# Altium schematic symbol library Potentiometers.SchLib: 5 symbols
Pins are listed as number, name and electrical type; pins without a type are passive.

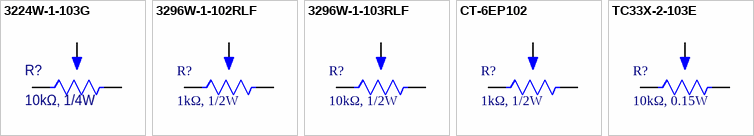
[diagram p0: symbols 3224W-1-103G to TC33X-2-103E]

## 3224W-1-103G
designator R?, comment 10kΩ, 1/4W
TRIMMER 10K OHM 0.25W J LEAD TOP; Manufacturer: Bourns; Manufacturer Part Number: 3224W-1-103G; Description: Trimmer, Cermet, 0.25W, 10000ohm, 300V, 10% +/-Tol, 100ppm/Cel, 12 Turn(s), 1914; Max Power Dissipation: 250mW; Number of Turns: 12; Temperature Coefficient: 100ppm/°C; Tolerance: 10%; Working Voltage: 300V; Supplier: DigiKey; Supplier Part Number: 3224W-1-103GCT-ND; RoHS: Compliant; Category: Variable Resistors and Potentiometers; Stock: 792; Pricing: 1=3.93, 10=3.271, 25=3.038, 50=2.8722, 100=2.7147, 250=2.51884, 500=2.3796 (USD); Composition: Cermet; Depth: 3.9mm; Height: 5.1mm; Length: 4.8mm; Lifecycle Status: Production; Max Operating Temperature: 150°C; Military Standard: Not; Min Operating Temperature: -65°C; Mounting Technology: Surface Mount; Number of Terminals: 3; Packaging: Tape & Reel (TR); Power Rating: 250mW; REACH SVHC: No; Value: 10kΩ; Termination: SMD/SMT; Width: 3.5mm; ComponentLink1URL: https://datasheet.octopart.com:443/3224W-1-103G-Bourns-datasheet-182141393.pdf?src-supplier=IHS; ComponentLink1Description: https://datasheet.octopart.com:443/3224W-1-103G-Bourns-datasheet-182141393.pdf?src-supplier=IHS; ComponentLink2URL: https://datasheet.octopart.com:443/3224W-1-103G-Bourns-datasheet-156011607.pdf?src-supplier=element14+APAC; ComponentLink2Description: https://datasheet.octopart.com:443/3224W-1-103G-Bourns-datasheet-156011607.pdf?src-supplier=element14+APAC; ComponentLink3URL: https://datasheet.octopart.com:443/3224W-1-103G-Bourns-datasheet-64275176.pdf?src-supplier=Master+Electronics; ComponentLink3Description: https://datasheet.octopart.com:443/3224W-1-103G-Bourns-datasheet-64275176.pdf?src-supplier=Master+Electronics; ComponentLink4URL: https://datasheet.octopart.com:443/3224W-1-103G-Bourns-datasheet-11533694.pdf?src-supplier=Arrow+Electronics; ComponentLink4Description: https://datasheet.octopart.com:443/3224W-1-103G-Bourns-datasheet-11533694.pdf?src-supplier=Arrow+Electronics; ComponentLink5URL: http://sigma.octopart.com:80/conflict_mineral_statement/Bourns-company-36.pdf?src-supplier=Compliance+Statements; ComponentLink5Description: http://sigma.octopart.com:80/conflict_mineral_statement/Bourns-company-36.pdf?src-supplier=Compliance+Statements
footprint TRIM-3224W
pins: 1 CCW, 2 WIPER, 3 CW

## 3296W-1-102RLF
designator R?, comment 1kΩ, 1/2W
TRIMMER 1K OHM 0.5W PC PIN TOP; Manufacturer: Bourns; Manufacturer Part Number: 3296W-1-102RLF; Tolerance: 10%; Actuator Orientation: Vertical; Actuator Type: SCREW; Number of Turns: 25; Power: 500mW; Rated Temperature: 70°C; Value: 1kR; Resistance Law: Linear; Rotational Angle: 9000°; Temperature Coefficient: -100100ppm/°C; Lead Diameter: 0.51mm; Lead Length: 6.4mm; Package Height: 10.03mm; Package Length: 9.53mm; Package Width: 4.83mm; Supplier: Digikey; Supplier Part Number: 118-3296W-1-102RLFCT-ND; RoHS: Yes; Category: Variable Resistors and Potentiometers; Stock: 1604; Pricing: 1=2.66, 10=2.326, 25=2.0768, 50=1.9522, 100=1.9106, 250=1.82752, 500=1.49526 (USD); Mounting Technology: Through Hole; Pins: 3; Package Shape: Rectangular; Case/Package: 3819; Terminal Finish: Tin; Min Operating Temperature: -55°C; Max Operating Temperature: 125°C; JESD-609 Code: e3; Resistor Type: TRIMMER; Construction: Trimmer Pot; Package Style: PCB MountMeter; Packaging: Tape and Reel; Technology: CERMET; Termination: Wire; RoHS Compliant: Yes; Reach SVHC Compliant: No; ComponentLink1URL: https://datasheet.ciiva.com:443/pdfs/VipMasterIC/IC/BOUR/BOUR-S-A0008796795/BOUR-S-A0008796795-1.pdf?src-supplier=IHS+Markit; ComponentLink1Description: https://datasheet.ciiva.com:443/pdfs/VipMasterIC/IC/BOUR/BOUR-S-A0008796795/BOUR-S-A0008796795-1.pdf?src-supplier=IHS+Markit; ComponentLink2URL: https://datasheet.ciiva.com/2162/3296-2162753.pdf?src-supplier=Digikey; ComponentLink2Description: https://datasheet.ciiva.com/2162/3296-2162753.pdf?src-supplier=Digikey; ComponentLink3URL: https://datasheet.ciiva.com/8088/3296-8088765.pdf?src-supplier=Avnet; ComponentLink3Description: https://datasheet.ciiva.com/8088/3296-8088765.pdf?src-supplier=Avnet; ComponentLink4URL: https://datasheet.ciiva.com/15211/getdatasheetpartid-707789-15211738.pdf?src-supplier=Verical; ComponentLink4Description: https://datasheet.ciiva.com/15211/getdatasheetpartid-707789-15211738.pdf?src-supplier=Verical
footprint TRIM-3296
pins: 1 CCW, 2 WIPER, 3 CW

## 3296W-1-103RLF
designator R?, comment 10kΩ, 1/2W
TRIMMER 10K OHM 0.5W PC PIN TOP; Manufacturer: Bourns; Manufacturer Part Number: 3296W-1-103RLF; Tolerance: 10%; Actuator Orientation: Vertical; Actuator Type: SCREW; Number of Turns: 25; Power: 500mW; Rated Temperature: 70°C; Value: 10kR; Resistance Law: Linear; Rotational Angle: 9000°; Temperature Coefficient: -100100ppm/°C; Lead Diameter: 0.51mm; Lead Length: 6.4mm; Package Height: 10.03mm; Package Length: 9.53mm; Package Width: 4.83mm; Supplier: Digikey; Supplier Part Number: 118-3296W-1-103RLFCT-ND; RoHS: Yes; Category: Variable Resistors and Potentiometers; Stock: 10907; Pricing: 1=2.66, 10=2.326, 25=2.0768, 50=1.9522, 100=1.9106, 250=1.82752, 500=1.49526 (USD); Mounting Technology: Through Hole; Pins: 3; Package Shape: Rectangular; Case/Package: 3819; Terminal Finish: Tin; Min Operating Temperature: -55°C; Max Operating Temperature: 125°C; JESD-609 Code: e3; Resistor Type: TRIMMER; Construction: Trimmer Pot; Package Style: PCB MountMeter; Packaging: Tape and Reel; Technology: CERMET; Termination: Wire; RoHS Compliant: Yes; Reach SVHC Compliant: No; ComponentLink1URL: https://datasheet.ciiva.com:443/pdfs/VipMasterIC/IC/BOUR/BOUR-S-A0008796795/BOUR-S-A0008796795-1.pdf?src-supplier=IHS+Markit; ComponentLink1Description: https://datasheet.ciiva.com:443/pdfs/VipMasterIC/IC/BOUR/BOUR-S-A0008796795/BOUR-S-A0008796795-1.pdf?src-supplier=IHS+Markit; ComponentLink2URL: https://datasheet.ciiva.com/6226/3296-6226765.pdf?src-supplier=Digikey; ComponentLink2Description: https://datasheet.ciiva.com/6226/3296-6226765.pdf?src-supplier=Digikey; ComponentLink3URL: https://datasheet.ciiva.com/6226/3296-6226767.pdf?src-supplier=Digikey; ComponentLink3Description: https://datasheet.ciiva.com/6226/3296-6226767.pdf?src-supplier=Digikey; ComponentLink4URL: https://datasheet.ciiva.com/15156/getdatasheetpartid-227249-15156874.pdf?src-supplier=Verical; ComponentLink4Description: https://datasheet.ciiva.com/15156/getdatasheetpartid-227249-15156874.pdf?src-supplier=Verical; ComponentLink5URL: https://datasheet.ciiva.com/8088/3296-8088775.pdf?src-supplier=Avnet; ComponentLink5Description: https://datasheet.ciiva.com/8088/3296-8088775.pdf?src-supplier=Avnet
footprint TRIM-3296
pins: 1 CCW, 2 WIPER, 3 CW

## CT-6EP102
designator R?, comment 1kΩ, 1/2W
TRIMMER 1K OHM 0.5W PC PIN TOP; Manufacturer: Nidec Copal; Manufacturer Part Number: CT-6EP102; Supplier: Digikey; Supplier Part Number: 563-CT-6EP102-ND; RoHS: Yes; Category: Variable Resistors and Potentiometers; Stock: 51856; Pricing: 1=0.59, 10=0.532, 25=0.4804, 50=0.4634, 200=0.43755, 400=0.4204, 600=0.39467, 1000=0.32603, 5000=0.3021 (USD); ComponentLink1URL: https://datasheet.ciiva.com/2157/ct-6-2157717.pdf?src-supplier=Digikey; ComponentLink1Description: https://datasheet.ciiva.com/2157/ct-6-2157717.pdf?src-supplier=Digikey
footprint TRIM-CT6EP
pins: 1 CCW, 2 WIPER, 3 CW

## TC33X-2-103E
designator R?, comment 10kΩ, 0.15W
TRIMMER 10K OHM 0.15W J LEAD TOP; Manufacturer: Bourns; Manufacturer Part Number: TC33X-2-103E; Max Power Dissipation: 100mW; Number of Turns: 1; Power Dissipation: 150mW; Temperature Coefficient: 250ppm/°C; Tolerance: 25%; Voltage Rating (DC): 50V; Supplier: DigiKey; Supplier Part Number: TC33X-103ECT-ND; RoHS: Compliant; Category: Variable Resistors and Potentiometers; Stock: 18061; Pricing: 1=0.25, 10=0.213, 25=0.1996, 50=0.1896, 100=0.18, 250=0.168, 500=0.15938, 1000=0.15119 (USD); Color: Silver; Composition: Cermet, Potentiometer; Contact Plating: Copper, Silver, Tin; Depth: 3.8mm; Height: 1.2mm; Lead Free: Lead Free; Length: 3mm; Lifecycle Status: Production; Max Operating Temperature: 100°C; Military Standard: Not; Min Operating Temperature: -40°C; Mounting Technology: Surface Mount; Number of Terminals: 3; Packaging: Cut Tape; Power Rating: 100mW; Radiation Hardening: No; REACH SVHC: Yes; Value: 10kΩ; Schedule B: 8533400080, 8533400080|8533400080|8533400080|8533400080|8533400080; Taper: Linear; Termination: Foot Print; Weight: 29.4mg; Width: 3.6mm; Working Voltage: 50V; ComponentLink1URL: https://datasheet.octopart.com:443/TC33X-2-103E-Bourns-datasheet-182142024.pdf?src-supplier=IHS; ComponentLink1Description: https://datasheet.octopart.com:443/TC33X-2-103E-Bourns-datasheet-182142024.pdf?src-supplier=IHS; ComponentLink2URL: https://datasheet.octopart.com:443/TC33X-2-103E-Bourns-datasheet-134530277.pdf?src-supplier=Upverter; ComponentLink2Description: https://datasheet.octopart.com:443/TC33X-2-103E-Bourns-datasheet-134530277.pdf?src-supplier=Upverter; ComponentLink3URL: https://datasheet.octopart.com:443/TC33X-2-103E-Bourns-datasheet-11551316.pdf?src-supplier=element14+APAC; ComponentLink3Description: https://datasheet.octopart.com:443/TC33X-2-103E-Bourns-datasheet-11551316.pdf?src-supplier=element14+APAC; ComponentLink4URL: https://datasheet.octopart.com:443/TC33X-2-103E-Bourns-datasheet-65566108.pdf?src-supplier=element14+APAC; ComponentLink4Description: https://datasheet.octopart.com:443/TC33X-2-103E-Bourns-datasheet-65566108.pdf?src-supplier=element14+APAC; ComponentLink5URL: https://datasheet.octopart.com:443/TC33X-2-103E-Bourns-datasheet-67039831.pdf?src-supplier=Farnell; ComponentLink5Description: https://datasheet.octopart.com:443/TC33X-2-103E-Bourns-datasheet-67039831.pdf?src-supplier=Farnell; ComponentLink6URL: https://datasheet.octopart.com:443/TC33X-2-103E-Bourns-datasheet-164917123.pdf?src-supplier=Farnell; ComponentLink6Description: https://datasheet.octopart.com:443/TC33X-2-103E-Bourns-datasheet-164917123.pdf?src-supplier=Farnell; ComponentLink7URL: https://datasheet.octopart.com:443/TC33X-2-103E-Bourns-datasheet-38800.pdf?src-supplier=Farnell; ComponentLink7Description: https://datasheet.octopart.com:443/TC33X-2-103E-Bourns-datasheet-38800.pdf?src-supplier=Farnell; ComponentLink8URL: https://datasheet.octopart.com:443/TC33X-2-103E-Bourns-datasheet-26822215.pdf?src-supplier=Newark; ComponentLink8Description: https://datasheet.octopart.com:443/TC33X-2-103E-Bourns-datasheet-26822215.pdf?src-supplier=Newark; ComponentLink9URL: https://datasheet.octopart.com:443/TC33X-2-103E-Bourns-datasheet-41964919.pdf?src-supplier=Newark; ComponentLink9Description: https://datasheet.octopart.com:443/TC33X-2-103E-Bourns-datasheet-41964919.pdf?src-supplier=Newark; ComponentLink10URL: https://datasheet.octopart.com:443/TC33X-2-103E-Bourns-datasheet-154730028.pdf?src-supplier=Electro+Sonic; ComponentLink10Description: https://datasheet.octopart.com:443/TC33X-2-103E-Bourns-datasheet-154730028.pdf?src-supplier=Electro+Sonic; ComponentLink11URL: https://datasheet.octopart.com:443/TC33X-2-103E-Bourns-datasheet-47549324.pdf?src-supplier=RS+(Formerly+Allied+Electronics); ComponentLink11Description: https://datasheet.octopart.com:443/TC33X-2-103E-Bourns-datasheet-47549324.pdf?src-supplier=RS+(Formerly+Allied+Electronics); ComponentLink12URL: https://datasheet.octopart.com:443/TC33X-2-103E-Bourns-datasheet-549861.pdf?src-supplier=RS+(Formerly+Allied+Electronics); ComponentLink12Description: https://datasheet.octopart.com:443/TC33X-2-103E-Bourns-datasheet-549861.pdf?src-supplier=RS+(Formerly+Allied+Electronics); ComponentLink13URL: https://datasheet.octopart.com:443/TC33X-2-103E-Bourns-datasheet-5319878.pdf?src-supplier=element14; ComponentLink13Description: https://datasheet.octopart.com:443/TC33X-2-103E-Bourns-datasheet-5319878.pdf?src-supplier=element14; ComponentLink14URL: https://datasheet.octopart.com:443/TC33X-2-103E-Bourns-datasheet-177040515.pdf?src-supplier=Burklin+Elektronik; ComponentLink14Description: https://datasheet.octopart.com:443/TC33X-2-103E-Bourns-datasheet-177040515.pdf?src-supplier=Burklin+Elektronik; ComponentLink15URL: https://datasheet.octopart.com:443/TC33X-2-103E-Bourns-datasheet-39003.pdf?src-supplier=Mouser; ComponentLink15Description: https://datasheet.octopart.com:443/TC33X-2-103E-Bourns-datasheet-39003.pdf?src-supplier=Mouser; ComponentLink16URL: http://sigma.octopart.com:80/conflict_mineral_statement/Bourns-company-36.pdf?src-supplier=Compliance+Statements; ComponentLink16Description: http://sigma.octopart.com:80/conflict_mineral_statement/Bourns-company-36.pdf?src-supplier=Compliance+Statements
footprint TRIM-3P80MM_3P60MM
pins: 1 CCW, 2 WIPER, 3 CW